# Altium schematic symbol library MTMM-101-X-X-S-X.SchLib: 1 symbol
Pins are listed as number, name and electrical type; pins without a type are passive.

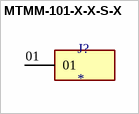
[diagram p0: symbol MTMM-101-X-X-S-X]

## MTMM-101-X-X-S-X
designator J?
Connector Header Through Hole 1 position; MF: Samtec; MP: MTMM-101-05-G-S-225; SnapEDA_Link: https://www.snapeda.com/parts/MTMM-101-05-G-S-225/Samtec/view-part/?ref=snap; Package: None; Value: *; Check_prices: https://www.snapeda.com/parts/MTMM-101-05-G-S-225/Samtec/view-part/?ref=eda
footprint SAMTEC_MTMM-101-X-X-S-X
pins: 01